# EAGLE library part TD62C950RF (library futaba-vfd)
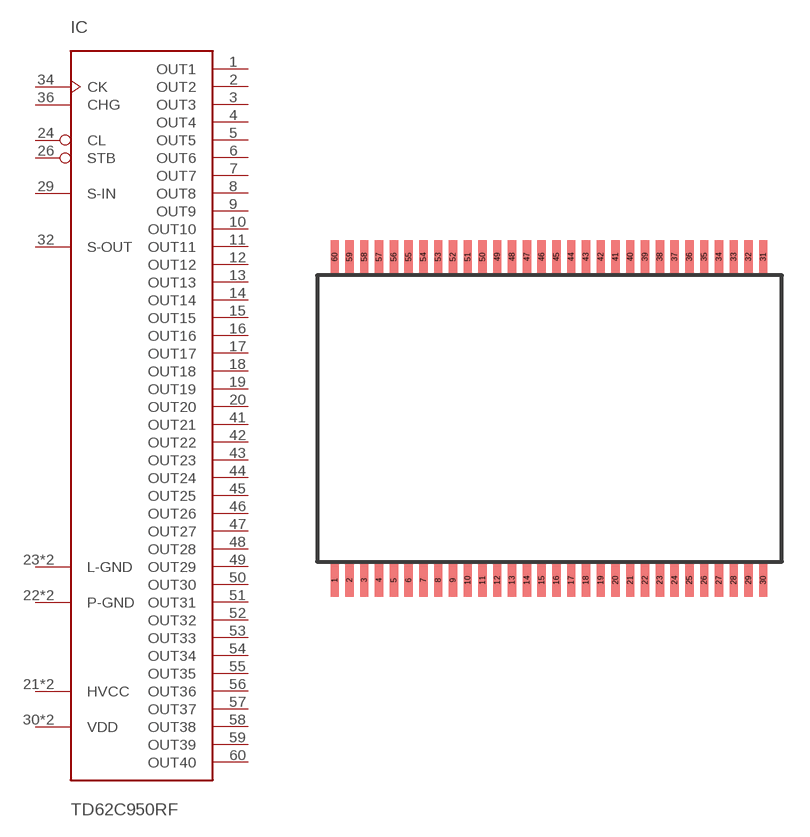
[diagram p1: symbol with the pads of SSOP60-P-0.65; footprint SSOP60-P-0.65]

Designator prefix IC

## TD62C950RF  [SSOP60-P-0.65]
1  OUT1  out
2  OUT2  out
3  OUT3  out
4  OUT4  out
5  OUT5  out
6  OUT6  out
7  OUT7  out
8  OUT8  out
9  OUT9  out
10  OUT10  out
11  OUT11  out
12  OUT12  out
13  OUT13  out
14  OUT14  out
15  OUT15  out
16  OUT16  out
17  OUT17  out
18  OUT18  out
19  OUT19  out
20  OUT20  out
21  HVCC  pwr
22  P-GND  pwr
23  L-GND  pwr
24  CL  in
26  STB  in
29  S-IN  in
30  VDD  pwr
31  VDD  pwr
32  S-OUT  out
34  CK  in
36  CHG  in
38  L-GND  pwr
39  P-GND  pwr
40  HVCC  pwr
41  OUT21  out
42  OUT22  out
43  OUT23  out
44  OUT24  out
45  OUT25  out
46  OUT26  out
47  OUT27  out
48  OUT28  out
49  OUT29  out
50  OUT30  out
51  OUT31  out
52  OUT32  out
53  OUT33  out
54  OUT34  out
55  OUT35  out
56  OUT36  out
57  OUT37  out
58  OUT38  out
59  OUT39  out
60  OUT40  out

## Footprint SSOP60-P-0.65 (pad centres in mm)
Shrink Small Outline Package
smd 0.45 x 1.8: 1 -10.8,-7.55; 2 -10,-7.55; 3 -9.2,-7.55; 4 -8.4,-7.55; 5 -7.6,-7.55; 6 -6.8,-7.55; 7 -6,-7.55; 8 -5.2,-7.55; 9 -4.4,-7.55; 10 -3.6,-7.55; 11 -2.8,-7.55; 12 -2,-7.55; 13 -1.2,-7.55; 14 -0.4,-7.55; 15 0.4,-7.55; 16 1.2,-7.55; 17 2,-7.55; 18 2.8,-7.55; 19 3.6,-7.55; 20 4.4,-7.55; 21 5.2,-7.55; 22 6,-7.55; 23 6.8,-7.55; 24 7.6,-7.55; 25 8.4,-7.55; 26 9.2,-7.55; 27 10,-7.55; 28 10.8,-7.55; 29 11.6,-7.55; 30 12.4,-7.55; 31 12.4,9.95; 32 11.6,9.95; 33 10.8,9.95; 34 10,9.95; 35 9.2,9.95; 36 8.4,9.95; 37 7.6,9.95; 38 6.8,9.95; 39 6,9.95; 40 5.2,9.95; 41 4.4,9.95; 42 3.6,9.95; 43 2.8,9.95; 44 2,9.95; 45 1.2,9.95; 46 0.4,9.95; 47 -0.4,9.95; 48 -1.2,9.95; 49 -2,9.95; 50 -2.8,9.95; 51 -3.6,9.95; 52 -4.4,9.95; 53 -5.2,9.95; 54 -6,9.95; 55 -6.8,9.95; 56 -7.6,9.95; 57 -8.4,9.95; 58 -9.2,9.95; 59 -10,9.95; 60 -10.8,9.95